# Altium footprint library Connectors.PcbLib: 13 footprints
Each footprint in its own frame and in the unit in brackets; x right, y up, seen from the top. Pads: shape width x height; smd on the part's side, far side on the other; paste and mask are expansions set on the pad; w line width, h text height; cw(c..) or ccw(c..) is an arc to the next point about the centre after c.
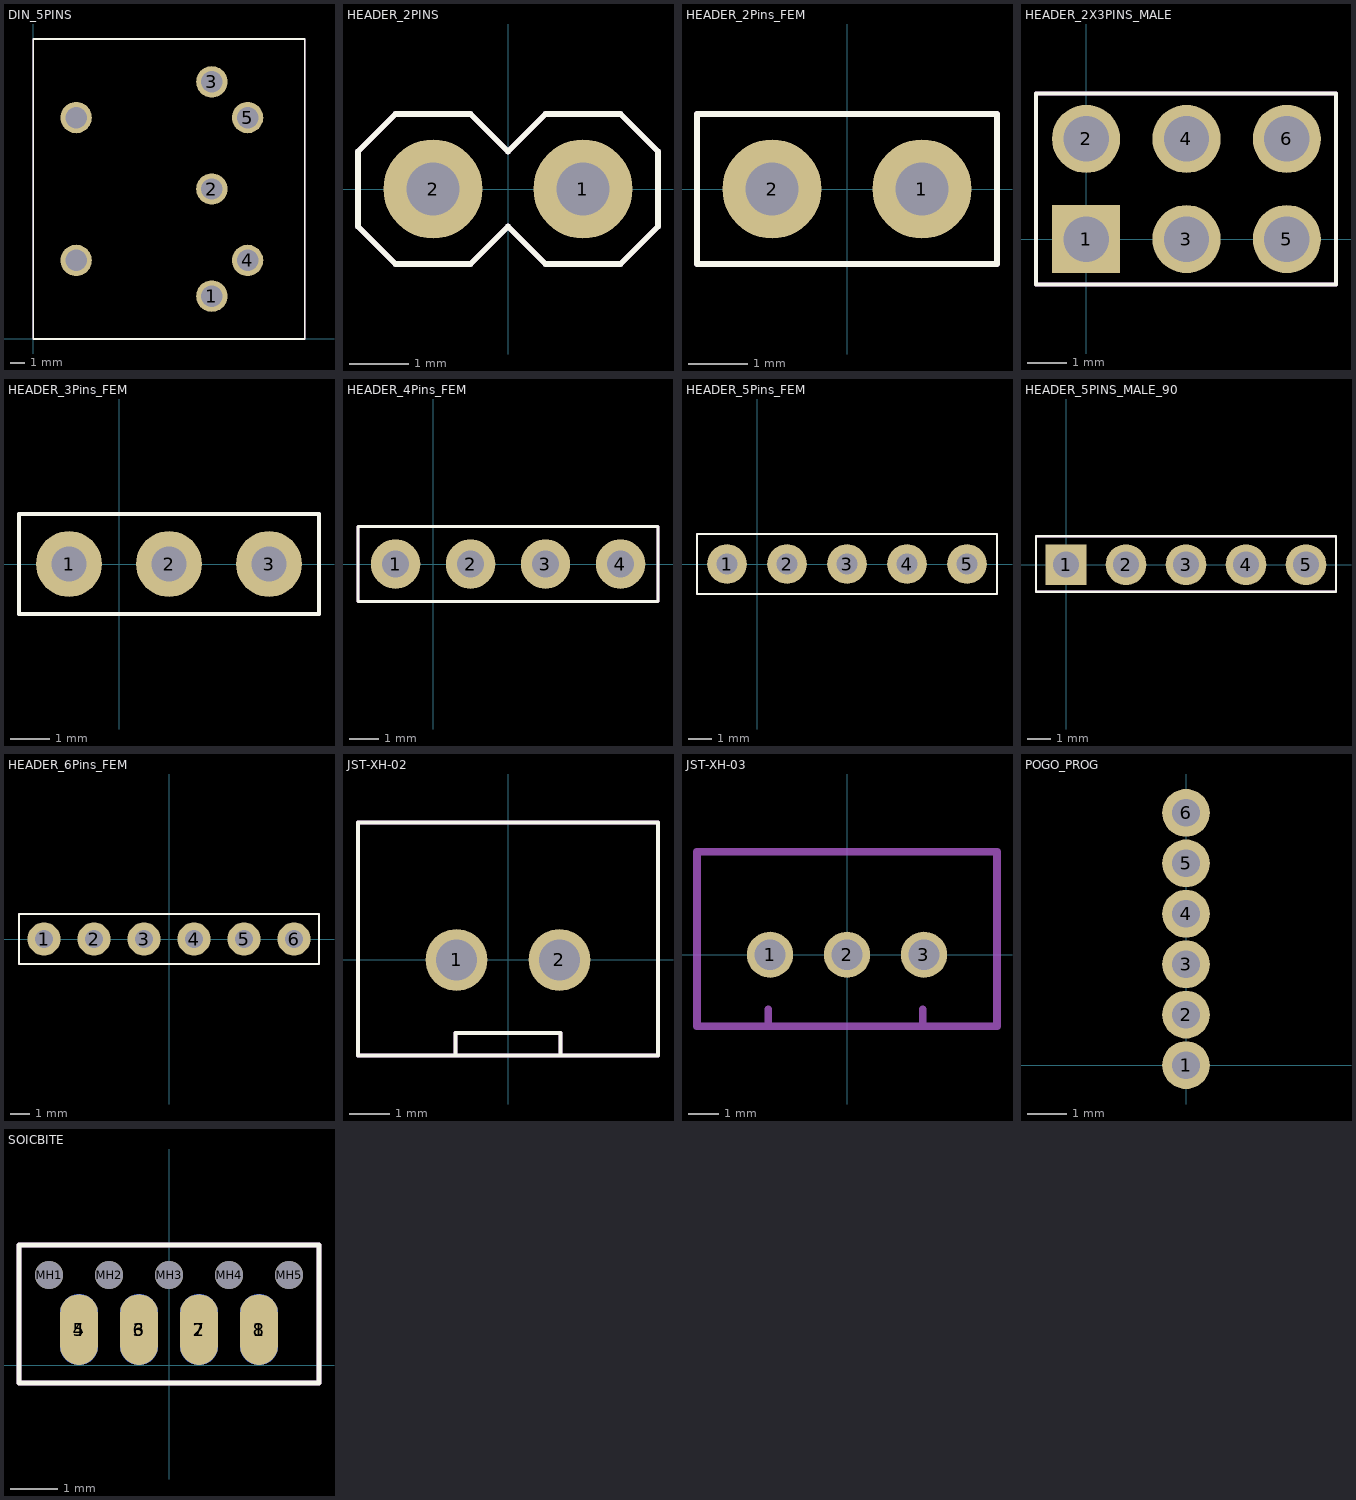
[diagram p0: the footprints below, top view; thin cyan lines are the x and y axes]

## DIN_5PINS [mm]
pads (7):
  round 2.2 hole 1.5: 1(12.5,3) 2(12.5,10.5) 3(12.5,18) 4(15,5.5) 5(15,15.5) ""(3,5.5) ""(3,15.5)
Top Overlay:
  lines w0.127: 0,0 19,0 19,21 0,21 0,0
Mechanical 2:
  lines w0.127: 0,0 19,0 19,21 0,21 0,0
3D body "DIN_5PINS.STEP": height 19.67, standoff -2.63, extent -0.014,-0.1 19,21.1

## HEADER_2PINS [mil]
pads (2):
  round 66 hole 35.43: 1(50,0) 2(-50,0)
Top Overlay:
  lines w3.94: -100,-25 -100,25 -75,50 -25,50 0,25 25,50 75,50 100,25 100,-25 75,-50 25,-50 0,-25 -25,-50 -75,-50 -100,-25
Mechanical 2:
  lines w3.94: -100,-25 -100,25 -75,50 -25,50 0,25 25,50 75,50 100,25 100,-25 75,-50 25,-50 0,-25 -25,-50 -75,-50 -100,-25
3D body "HEADER_2PINS.STEP": height 330, standoff -100, extent -102.5,-50 102.5,50

## HEADER_2Pins_FEM [mil]
pads (2):
  round 66 hole 35.43: 1(50,0) 2(-50,0)
Top Overlay:
  lines w3.94: -100,-50 -100,49.99 100,50 100,-50 -100,-50
Mechanical 2:
  lines w3.94: -100,-50 100,-50 100,50 -100,50 -100,-50
3D body "HEADER_2PINS_FEM.STEP": height 237.01, standoff -122.05, extent -100,-50 100,50

## HEADER_2X3PINS_MALE [mm]
pads (6):
  rect 1.725x1.725 hole 1.15: 1(0,0)
  round 1.725 hole 1.15: 2(0,2.54) 3(2.54,0) 4(2.54,2.54) 5(5.08,0) 6(5.08,2.54)
Top Overlay:
  lines w0.1: -1.27,-1.145 6.325,-1.145 6.325,3.685 -1.27,3.685 -1.27,-1.145
Mechanical 2:
  lines w0.1: -1.27,-1.145 6.325,-1.145 6.325,3.685 -1.27,3.685 -1.27,-1.145
3D body "HEADER_2X3PINS_MALE.step": height 9.2, standoff -3.5, extent -1.285,-1.28 6.335,3.8

## HEADER_3Pins_FEM [mil]
pads (3):
  round 66 hole 35.43: 1(-50,0) 2(50,0) 3(150,0)
Top Overlay:
  lines w3.94: -100,-50 -100,49.99 200,50 200,-50 -100,-50
Mechanical 2:
  lines w3.94: -100,-50 200,-50 200,50 -100,50 -100,-50
3D body "HEADER_3PINS_FEM.STEP": height 237.01, standoff -122.05, extent -100,-50 200,50

## HEADER_4Pins_FEM [mil]
pads (4):
  round 66 hole 35.43: 1(-50,0) 2(50,0) 3(150,0) 4(250,0)
Top Overlay:
  lines w3.94: -100,-50 -100,49.99 300,50 300,-50 -100,-50
Mechanical 2:
  lines w3.94: -100,-50 300,-50 300,50 -100,50 -100,-50
3D body "HEADER_4PINS_FEM.STEP": height 237.01, standoff -122.05, extent -100,-50 300,50

## HEADER_5Pins_FEM [mil]
pads (5):
  round 66 hole 35.43: 1(-50,0) 2(50,0) 3(150,0) 4(250,0) 5(350,0)
Top Overlay:
  lines w3.94: -100,-50 -100,49.99 400,50 400,-50 -100,-50
Mechanical 2:
  lines w3.94: -100,-50 400,-50 400,50 -100,50 -100,-50
3D body "HEADER_5PINS_FEM.STEP": height 237.01, standoff -122.05, extent -100,-50 400,50

## HEADER_5PINS_MALE_90 [mm]
pads (5):
  rect 1.725x1.725 hole 1.1: 1(0,0)
  round 1.725 hole 1.1: 2(2.54,0) 3(5.08,0) 4(7.62,0) 5(10.16,0)
Top Overlay:
  lines w0.1: -1.27,-1.145 11.43,-1.145 11.43,1.2 -1.27,1.2 -1.27,-1.145
Mechanical 2:
  lines w0.1: -1.27,-1.145 11.43,-1.145 11.43,1.2 -1.27,1.2 -1.27,-1.145
3D body "HEADER_5PINS_90_MALE.step": height 2.51, standoff -3, extent -1.27,-0.3 11.43,9.83

## HEADER_6Pins_FEM [mil]
pads (6):
  round 66 hole 35.43: 1(-250,0) 2(-150,0) 3(-50,0) 4(50,0) 5(150,0) 6(250,0)
Top Overlay:
  lines w3.94: -300,-50 300,-50 300,50 -300,50 -300,-50
Mechanical 2:
  lines w3.94: -300,-50 -300,49.99 300,50 300,-50 -300,-50
3D body "HEADER_3PINS_FEM.STEP": height 237.01, standoff -122.05, extent 0,-50 300,50
3D body "HEADER_3PINS_FEM.STEP": height 237.01, standoff -122.05, extent -300,-50 0,50

## JST-XH-02 [mil]
pads (2):
  round 60 hole 40: 1(-50,0) 2(50,0)
Top Overlay:
  lines w3.94: -51.18,-90.55 -51.18,-70.87 51.18,-70.87 51.18,-90.55 ; -145.67,-92.82 -145.67,133.56 145.67,133.56 145.67,-92.82 -145.67,-92.82
Mechanical 2:
  lines w3.94: -51.18,-90.55 -51.18,-70.87 51.18,-70.87 51.18,-90.55 ; -145.67,-92.82 145.67,-92.82 145.67,133.56 -145.67,133.56 -145.67,-92.82
3D body "JST-XH-02.STEP": height 275.59, standoff -133.86, extent -145.67,-95 145.67,131.38

## JST-XH-03 [mil]
pads (3):
  round 60 hole 40: 1(-100,0) 2(0,0) 3(100,0)
Mechanical 2:
  lines w10: -102.36,-90.55 -102.36,-70.87 ; 98.43,-90.55 98.43,-70.87 ; -194.88,-92.82 194.88,-92.82 194.88,133.56 -194.88,133.56 -194.88,-92.82
3D body "JST-XH-03.STEP": height 275.59, standoff -133.86, extent -194.88,-93.5 194.89,132.88

## POGO_PROG [mm]
pads (6):
  round 1.2 hole 0.7: 1(0,0) 2(0,1.27) 3(0,2.54) 4(0,3.81) 5(0,5.08) 6(0,6.35)

## SOICBITE [mm]
pads (13):
  rrect100% 0.8x1.5 smd paste-999: 1(1.905,0.75) 2(0.635,0.75) 3(-0.635,0.75) 4(-1.905,0.75)
  rrect100% 0.8x1.5 smd far side: 5(-1.905,0.75) 6(-0.635,0.75) 7(0.635,0.75)
  rrect100% 0.8x1.5 smd far side paste+0: 8(1.905,0.75)
  round 0.6 hole 0.6 unplated: MH1(-2.54,1.905) MH2(-1.27,1.905) MH3(0,1.905) MH4(1.27,1.905) MH5(2.54,1.905)
Top Overlay:
  lines w0.1: -3.175,-0.381 -3.175,2.54 3.175,2.54 3.175,-0.381 -3.175,-0.381
Mechanical 2:
  lines w0.1: -3.175,-0.381 3.175,-0.381 3.175,2.54 -3.175,2.54 -3.175,-0.381